# Altium footprint library STM32H747XIH6 CB V1.2.PcbLib: 32 footprints (part 1 of 2)
Each footprint in its own frame and in the unit in brackets; x right, y up, seen from the top. Pads: shape width x height; smd on the part's side, far side on the other; paste and mask are expansions set on the pad; w line width, h text height; cw(c..) or ccw(c..) is an arc to the next point about the centre after c.
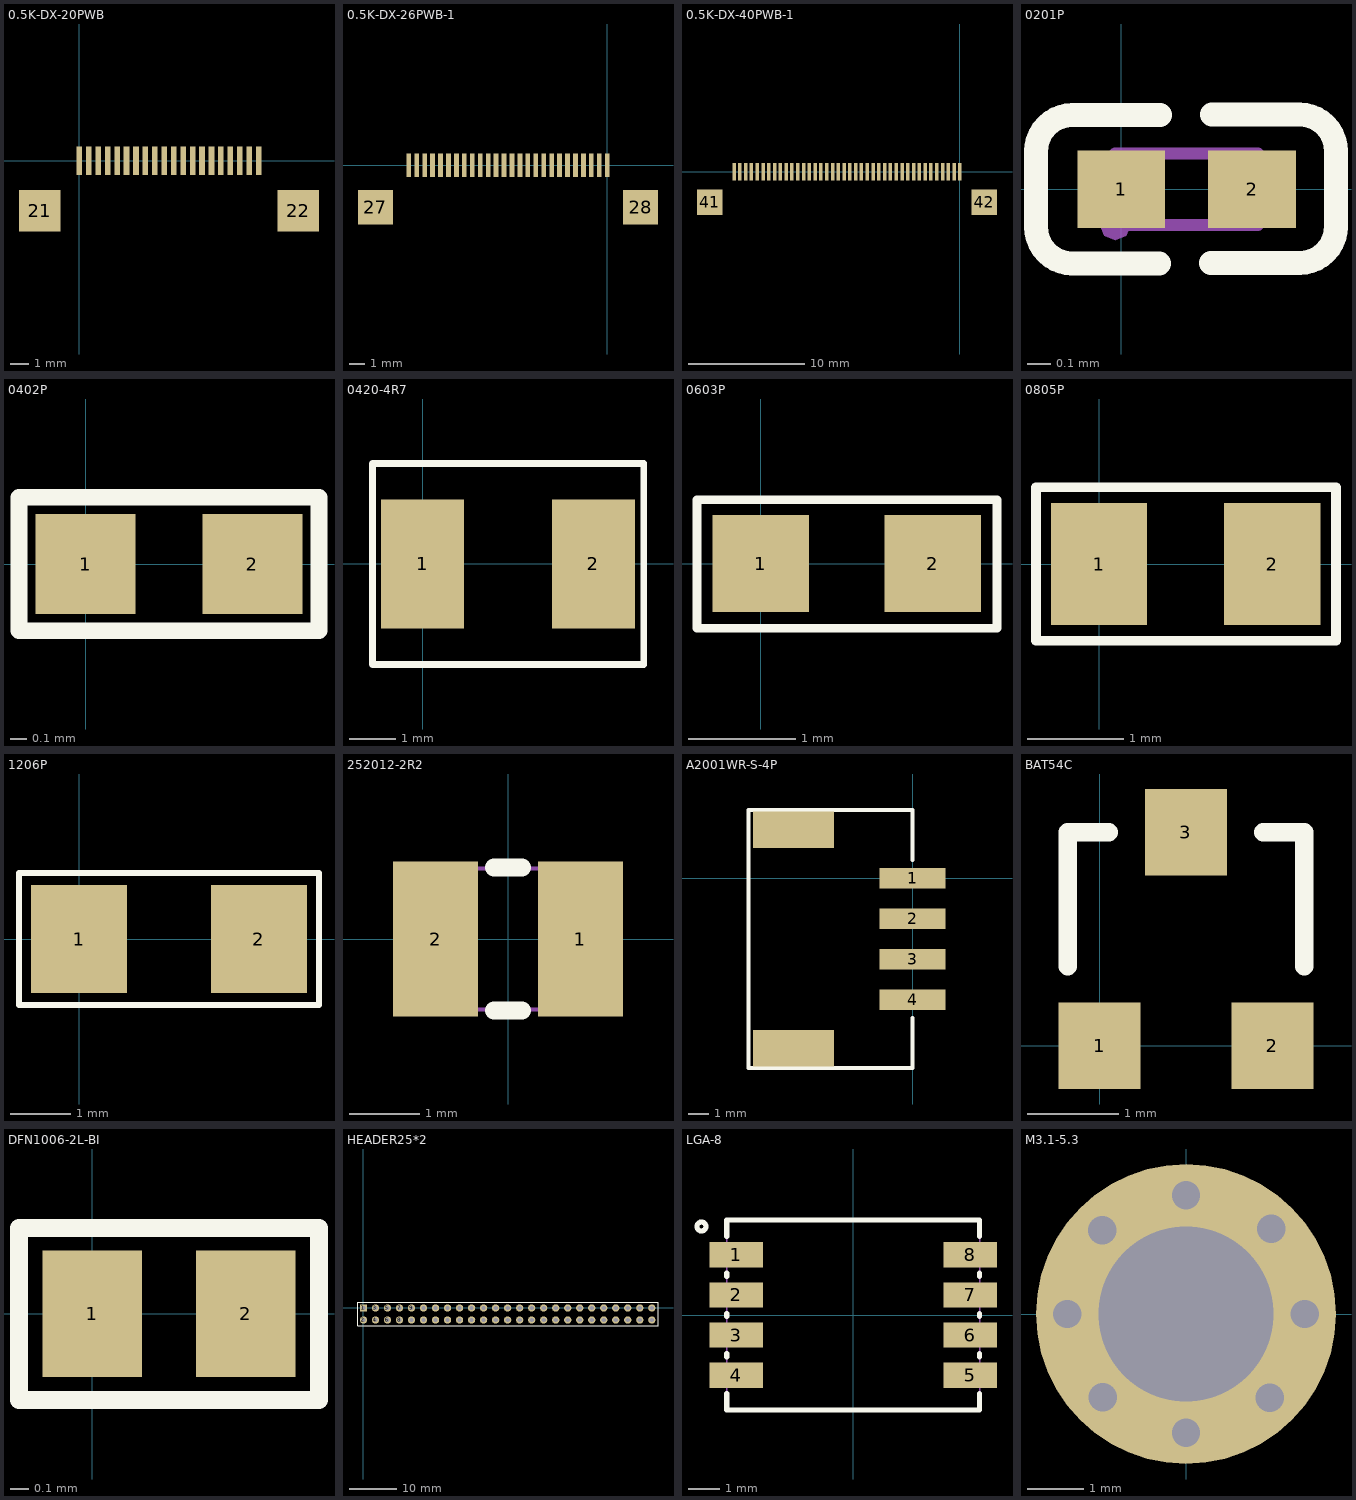
[diagram p0: the footprints below, top view; thin cyan lines are the x and y axes]

## 0.5K-DX-20PWB [mm]
pads (22):
  rect 0.3x1.5 smd: 1(0,0) 2(0.5,0) 3(1,0) 4(1.5,0) 5(2,0) 6(2.5,0) 7(3,0) 8(3.5,0) 9(4,0) 10(4.5,0) 11(5,0) 12(5.5,0) 13(6,0) 14(6.5,0) 15(7,0) 16(7.5,0) 17(8,0) 18(8.5,0) 19(9,0) 20(9.5,0)
  rect 2.2x2.2 smd: 21(-2.1,-2.65) 22(11.6,-2.65)

## 0.5K-DX-26PWB-1 [mm]
pads (28):
  rect 0.3x1.5 smd: 1(0,0) 2(-0.5,0) 3(-1,0) 4(-1.5,0) 5(-2,0) 6(-2.5,0) 7(-3,0) 8(-3.5,0) 9(-4,0) 10(-4.5,0) 11(-5,0) 12(-5.5,0) 13(-6,0) 14(-6.5,0) 15(-7,0) 16(-7.5,0) 17(-8,0) 18(-8.5,0) 19(-9,0) 20(-9.5,0) 21(-10,0) 22(-10.5,0) 23(-11,0) 24(-11.5,0) 25(-12,0) 26(-12.5,0)
  rect 2.2x2.2 smd: 27(-14.6,-2.65) 28(2.1,-2.65)

## 0.5K-DX-40PWB-1 [mm]
pads (42):
  rect 0.3x1.5 smd: 1(0,0) 2(-0.5,0) 3(-1,0) 4(-1.5,0) 5(-2,0) 6(-2.5,0) 7(-3,0) 8(-3.5,0) 9(-4,0) 10(-4.5,0) 11(-5,0) 12(-5.5,0) 13(-6,0) 14(-6.5,0) 15(-7,0) 16(-7.5,0) 17(-8,0) 18(-8.5,0) 19(-9,0) 20(-9.5,0) 21(-10,0) 22(-10.5,0) 23(-11,0) 24(-11.5,0) 25(-12,0) 26(-12.5,0) 27(-13,0) 28(-13.5,0) 29(-14,0) 30(-14.5,0) 31(-15,0) 32(-15.5,0) 33(-16,0) 34(-16.5,0) 35(-17,0) 36(-17.5,0) 37(-18,0) 38(-18.5,0) 39(-19,0) 40(-19.5,0)
  rect 2.2x2.2 smd: 41(-21.6,-2.65) 42(2.1,-2.65)

## 0201P [mm]
pads (2):
  rect 0.368x0.324 smd: 1(0,0) 2(0.549,0)
Top Overlay:
  lines w0.1: -0.209,-0.311 0.159,-0.311 ; -0.206,-0.311 cw(c-0.206,-0.159) -0.358,-0.159 -0.358,0.159 cw(c-0.206,0.159) -0.206,0.311 0.163,0.311 ; 0.377,-0.309 0.745,-0.309 ; 0.38,0.313 0.749,0.313 cw(c0.749,0.161) 0.901,0.161 0.901,-0.157 cw(c0.749,-0.157) 0.749,-0.309
Top Paste:
  region: 0.355,-0.138 0.355,0.138 0.379,0.162 0.709,0.162 0.733,0.138 0.733,-0.138 0.709,-0.162 0.379,-0.162
  region: 0.193,-0.138 0.193,0.138 0.169,0.162 -0.16,0.162 -0.184,0.138 -0.184,-0.138 -0.16,-0.162 0.169,-0.162
Mechanical 15:
  region: 0.039,-0.15 0.02,-0.196 -0.026,-0.215 -0.072,-0.196 -0.091,-0.15 -0.072,-0.104 -0.026,-0.085 0.02,-0.104
  region: -0.026,-0.15 -0.026,0.15 0.124,0.15 0.124,-0.15
  region: 0.574,-0.15 0.574,0.15 0.424,0.15 0.424,-0.15
  lines w0.051: -0.026,-0.15 -0.026,0.15 0.574,0.15 0.574,-0.15 -0.026,-0.15

## 0402P [mm]
pads (2):
  rect 0.6x0.6 smd: 1(0,0) 2(1,0)
Top Overlay:
  lines w0.1: -0.4,-0.4 -0.4,0.4 1.4,0.4 1.4,-0.4 -0.4,-0.4

## 0420-4R7 [mm]
pads (2):
  rect 1.8x2.8 smd: 1(0,0) 2(3.7,0)
Top Overlay:
  lines w0.15: -1.09,-2.175 4.792,-2.175 4.792,2.174 -1.09,2.174 -1.09,-2.175

## 0603P [mm]
pads (2):
  rect 0.9x0.9 smd: 1(0,0) 2(1.6,0)
Top Overlay:
  lines w0.08: -0.596,-0.603 -0.596,0.595 2.199,0.595 2.199,-0.603 -0.596,-0.603

## 0805P [mm]
pads (2):
  rect 1x1.27 smd: 1(0,0) 2(1.8,0)
Top Overlay:
  lines w0.1: -0.656,-0.798 -0.656,0.802 2.463,0.802 2.463,-0.798 -0.656,-0.798

## 1206P [mm]
pads (2):
  rect 1.6x1.8 smd: 1(0,0) 2(3,0)
Top Overlay:
  lines w0.1: -1,-1.1 -1,1.1 4,1.1 4,-1.1 -1,-1.1

## 252012-2R2 [mm]
pads (2):
  rect 1.2x2.2 smd: 1(1.028,0) 2(-1.028,0)
Top Overlay:
  lines w0.254: -0.197,-1.016 0.197,-1.016 ; -0.197,1.016 0.197,1.016
Mechanical 15:
  region: 1.315,1 1.296,0.954 1.25,0.935 1.204,0.954 1.185,1 1.204,1.046 1.25,1.065 1.296,1.046
  region: 0.45,1 1.25,1 1.25,-1 0.45,-1
  region: -1.25,1 -0.45,1 -0.45,-1 -1.25,-1
  lines w0.051: -1.25,-1 -1.25,1 1.25,1 1.25,-1 -1.25,-1

## A2001WR-S-4P [mm]
pads (6):
  rect 3.25x1 smd: 1(0,0) 2(0,-2) 3(0,-4) 4(0,-6)
  rect 4x1.8 smd: ""(-5.875,-8.4) ""(-5.875,2.4)
Top Overlay:
  lines w0.2: 0,-9.365 0,-6.903 ; 0.001,-9.366 -8.105,-9.366 -8.105,3.372 0,3.372 0,0.903 0.001,0.903

## BAT54C [mm]
pads (3):
  rect 0.9x0.95 smd: 1(0,0) 2(1.9,0) 3(0.95,2.35)
Top Overlay:
  lines w0.2: -0.35,0.875 -0.35,2.35 0.1,2.35 ; 1.8,2.35 2.25,2.35 2.25,0.875

## DFN1006-2L-BI [mm]
pads (2):
  rect 0.55x0.7 smd: 1(0,0) 2(0.85,0)
Top Overlay:
  lines w0.1: -0.355,-0.479 -0.34,-0.479 ; -0.34,-0.479 -0.406,-0.479 -0.406,-0.13 -0.406,0.476 -0.355,0.476 0.802,0.476 1.1,0.476 1.255,0.476 1.255,-0.016 1.255,-0.479 1.1,-0.479 0.924,-0.479 -0.34,-0.479

## HEADER25*2 [mm]
pads (50):
  rect 1.55x1.55 hole 0.9: 1(0,0)
  round 1.55 hole 0.9: 2(0,-2.54) 3(2.54,0) 4(2.54,-2.54) 5(5.08,0) 6(5.08,-2.54) 7(7.62,0) 8(7.62,-2.54) 9(10.16,0) 10(10.16,-2.54) 11(12.7,0) 12(12.7,-2.54) 13(15.24,0) 14(15.24,-2.54) 15(17.78,0) 16(17.78,-2.54) 17(20.32,0) 18(20.32,-2.54) 19(22.86,0) 20(22.86,-2.54) 21(25.4,0) 22(25.4,-2.54) 23(27.94,0) 24(27.94,-2.54) 25(30.48,0) 26(30.48,-2.54) 27(33.02,0) 28(33.02,-2.54) 29(35.56,0) 30(35.56,-2.54) 31(38.1,0) 32(38.1,-2.54) 33(40.64,0) 34(40.64,-2.54) 35(43.18,0) 36(43.18,-2.54) 37(45.72,0) 38(45.72,-2.54) 39(48.26,0) 40(48.26,-2.54) 41(50.8,0) 42(50.8,-2.54) 43(53.34,0) 44(53.34,-2.54) 45(55.88,0) 46(55.88,-2.54) 47(58.42,0) 48(58.42,-2.54) 49(60.96,0) 50(60.96,-2.54)
Top Overlay:
  lines w0.2: -1.156,-3.724 62.267,-3.724 62.267,1.176 -1.156,1.176 -1.156,-3.724

## LGA-8 [mm]
pads (8):
  rect 1.7x0.8 smd: 1(-3.7,1.905) 2(-3.7,0.635) 3(-3.7,-0.635) 4(-3.7,-1.905) 5(3.7,-1.905) 6(3.7,-0.635) 7(3.7,0.635) 8(3.7,1.905)
Top Overlay:
  circle w0.16: c-4.8,2.8 r0.141
  lines w0.16: -4,-2.489 -4,-3 4,-3 4,-2.489 ; -4,-1.321 -4,-1.219 ; -4,-0.051 -4,0.051 ; -4,1.219 -4,1.321 ; -4,2.489 -4,3 4,3 4,2.489 ; 4,-1.321 4,-1.219 ; 4,-0.051 4,0.051 ; 4,1.219 4,1.321
Mechanical 15:
  region: -3.935,3 -3.954,2.954 -4,2.935 -4.046,2.954 -4.065,3 -4.046,3.046 -4,3.065 -3.954,3.046
  region: -4,2.28 -3.25,2.28 -3.25,1.53 -4,1.53
  region: -4,1.01 -3.25,1.01 -3.25,0.26 -4,0.26
  region: -4,-0.26 -3.25,-0.26 -3.25,-1.01 -4,-1.01
  region: -4,-1.53 -3.25,-1.53 -3.25,-2.28 -4,-2.28
  region: 3.25,2.28 4,2.28 4,1.53 3.25,1.53
  region: 3.25,1.01 4,1.01 4,0.26 3.25,0.26
  region: 3.25,-0.26 4,-0.26 4,-1.01 3.25,-1.01
  region: 3.25,-1.53 4,-1.53 4,-2.28 3.25,-2.28
  lines w0.051: -4,-3 -4,3 4,3 4,-3 -4,-3

## M3.1-5.3 [mm]
pads (9):
  round 0.5 hole 0.5: ""(-2.1,0) ""(-1.48,1.48) ""(-1.473,-1.473) ""(0,-2.1) ""(0,2.1) ""(1.48,-1.48) ""(1.506,1.506) ""(2.1,0)
  round 5.3 hole 3.1: ""(0,0)